# EAGLE library part ADG804 (library Eagle_CAD_parts)
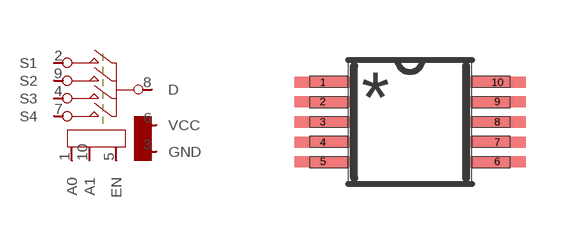
[diagram p3: symbol with the pads of 10-MSOP; footprint 10-MSOP]

Designator prefix -

## ADG804_SMD  [10-MSOP]
1  A0
2  S1
3  GND
4  S3
5  EN
6  VCC
7  S4
8  D
9  S2
10  A1

## Footprint 10-MSOP (pad centres in mm)
smd 1.422 x 0.279: 1 -2.184,0.991; 2 -2.184,0.508; 3 -2.184,0; 4 -2.184,-0.508; 5 -2.184,-0.991; 6 2.184,-0.991; 7 2.184,-0.508; 8 2.184,0; 9 2.184,0.508; 10 2.184,0.991